# Altium schematic symbol library RD3H080SP.SchLib: 1 symbol
Pins are listed as number, name and electrical type; pins without a type are passive.

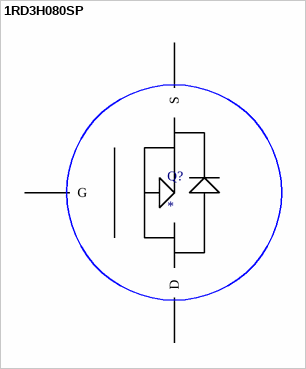
[diagram p0: symbol 1RD3H080SP]

## 1RD3H080SP
designator Q?
PartNumber: RD3H080SPTL1; Manufacturer: Rohm; Supplier 1: Digi-Key; Supplier Part Number 1: RD3H080SPTL1CT-ND
footprint TO-252
pins: 1 G, 2 D, 3 S